# Altium integrated library Library.IntLib: 17 symbols
Pins are listed as number, name and electrical type; pins without a type are passive.

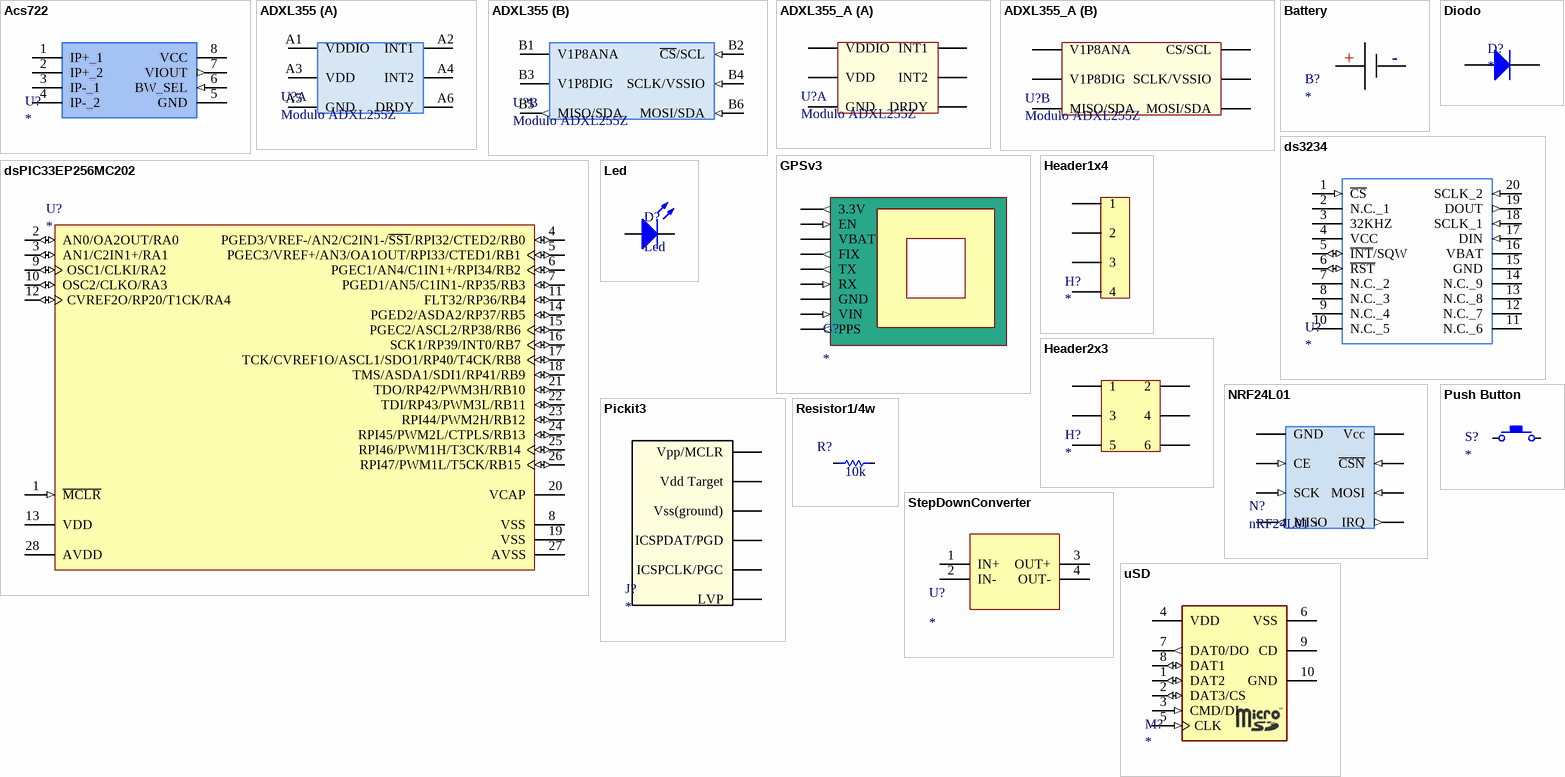
[diagram p0: symbols Acs722 to uSD]

## Acs722
designator U?
footprint Acs722
pins: 1 IP+_1, 2 IP+_2, 3 IP-_1, 4 IP-_2, 5 GND, 6 BW_SEL (in), 7 VIOUT (out), 8 VCC (power)

## ADXL355
designator U?, comment Modulo ADXL255Z
footprint ADXL355
part A pins: A1 VDDIO (power), A2 INT1, A3 VDD (power), A4 INT2, A5 GND, A6 DRDY
part B pins: B1 V1P8ANA, B2 ~{CS}/SCL (in), B3 V1P8DIG, B4 SCLK/VSSIO (in), B5 MISO/SDA (out), B6 MOSI/SDA (in)

## ADXL355_A
designator U?, comment Modulo ADXL255Z
footprint ADXL355_A
part A pins: A1 VDDIO (power), A2 INT1, A3 VDD, A4 INT2, A5 GND, A6 DRDY
part B pins: B1 V1P8ANA, B2 CS/SCL, B3 V1P8DIG, B4 SCLK/VSSIO, B5 MISO/SDA, B6 MOSI/SDA

## Battery
designator B?
footprint BatteryP/N500
pins: NEG Negativo (power), POS Positivo (power)
text: +; -

## Diodo
designator D?
pins: 1 A, 2 K

## ds3234
designator U?
footprint ds3234
pins: 1 ~{CS} (in), 2 N.C._1, 3 32KHZ, 4 VCC, 5 ~{INT}/SQW (io), 6 ~{RST} (io), 7 N.C._2, 8 N.C._3, 9 N.C._4, 10 N.C._5, 11 N.C._6, 12 N.C._7, 13 N.C._8, 14 N.C._9, 15 GND, 16 VBAT (power), 17 DIN (in), 18 SCLK_1 (in), 19 DOUT (out), 20 SCLK_2 (in)

## dsPIC33EP256MC202
designator U?
footprint dsPIC33EP256MC202
pins: 1 ~{MCLR} (in) "Master Clear (Reset) input. This pin is an active-low Reset to the device.", 2 AN0/OA2OUT/RA0 (io), 3 AN1/C2IN1+/RA1 (io), 4 PGED3/VREF-/AN2/C2IN1-/~{SS1}/RPI32/CTED2/RB0 (io), 5 PGEC3/VREF+/AN3/OA1OUT/RPI33/CTED1/RB1 (io), 6 PGEC1/AN4/C1IN1+/RPI34/RB2 (io), 7 PGED1/AN5/C1IN1-/RP35/RB3 (io), 8 VSS (power) "Ground reference for logic and I/O pins.", 9 OSC1/CLKI/RA2 (io), 10 OSC2/CLKO/RA3 (io), 11 FLT32/RP36/RB4 (io), 12 CVREF2O/RP20/T1CK/RA4 (io), 13 VDD (power) "Positive supply for peripheral logic and I/O pins.", 14 PGED2/ASDA2/RP37/RB5 (io), 15 PGEC2/ASCL2/RP38/RB6 (io), 16 SCK1/RP39/INT0/RB7 (io), 17 TCK/CVREF1O/ASCL1/SDO1/RP40/T4CK/RB8 (io), 18 TMS/ASDA1/SDI1/RP41/RB9 (io), 19 VSS (power) "Ground reference for logic and I/O pins.", 20 VCAP "CPU logic filter capacitor connection.", 21 TDO/RP42/PWM3H/RB10 (io), 22 TDI/RP43/PWM3L/RB11 (io), 23 RPI44/PWM2H/RB12 (io), 24 RPI45/PWM2L/CTPLS/RB13 (io), 25 RPI46/PWM1H/T3CK/RB14 (io), 26 RPI47/PWM1L/T5CK/RB15 (io), 27 AVSS (power) "Ground reference for analog modules. This pin must be connected at all times.", 28 AVDD (power) "Positive supply for analog modules. This pin must be connected at all times."

## GPSv3
designator G?
footprint GPSv3 (Ultimate GPS Breakout v3)
pins: 1 3.3V (out), 2 EN (in), 3 VBAT, 4 FIX (out), 5 TX (out), 6 RX (in), 7 GND, 8 VIN (in), 9 PPS (out)

## Header1x4
designator H?
footprint Header1x4M
pins: 1, 2, 3, 4

## Header2x3
designator H?
footprint Header3x2; pin to pad 1>A1 2>A2 3>A3 4>A4 5>A5 6>A6
pins: 1, 2, 3, 4, 5, 6

## Led
designator D?
footprint Led
pins: 1 A, 2 K

## NRF24L01
designator N?, comment nRF24L01 +
footprint NRF24L01
pins: 1 GND (power) "VCC", 2 Vcc (power) "VCC", 3 CE (in), 4 ~{CSN} (in), 5 SCK (in), 6 MOSI (in), 7 MISO (out), 8 IRQ (out)

## Pickit3
designator J?
footprint Pickit3
pins: 1 Vpp/MCLR, 2 Vdd Target, 3 Vss(ground), 4 ICSPDAT/PGD, 5 ICSPCLK/PGC, 6 LVP

## Push Button
designator S?
footprint button
pins: 1, 2

## Resistor1/4w
designator R?  value 10k  (hidden comment: *)
footprint 10k1/4W (1/4W)
pins: 1, 2

## StepDownConverter
designator U?
footprint StepDownConverter
pins: 1 IN+, 2 IN-, 3 OUT+, 4 OUT-

## uSD
designator M?
footprint uSD
pins: 1 DAT2 (io), 2 DAT3/CS (io), 3 CMD/DI (in), 4 VDD (power), 5 CLK (in), 6 VSS (power), 7 DAT0/DO (out), 8 DAT1 (io), 9 CD, 10 GND